# EAGLE library part TIVAC (library tivac)
Tiva-C chip manufactured by TI, chip number is TM4C123GH6PM
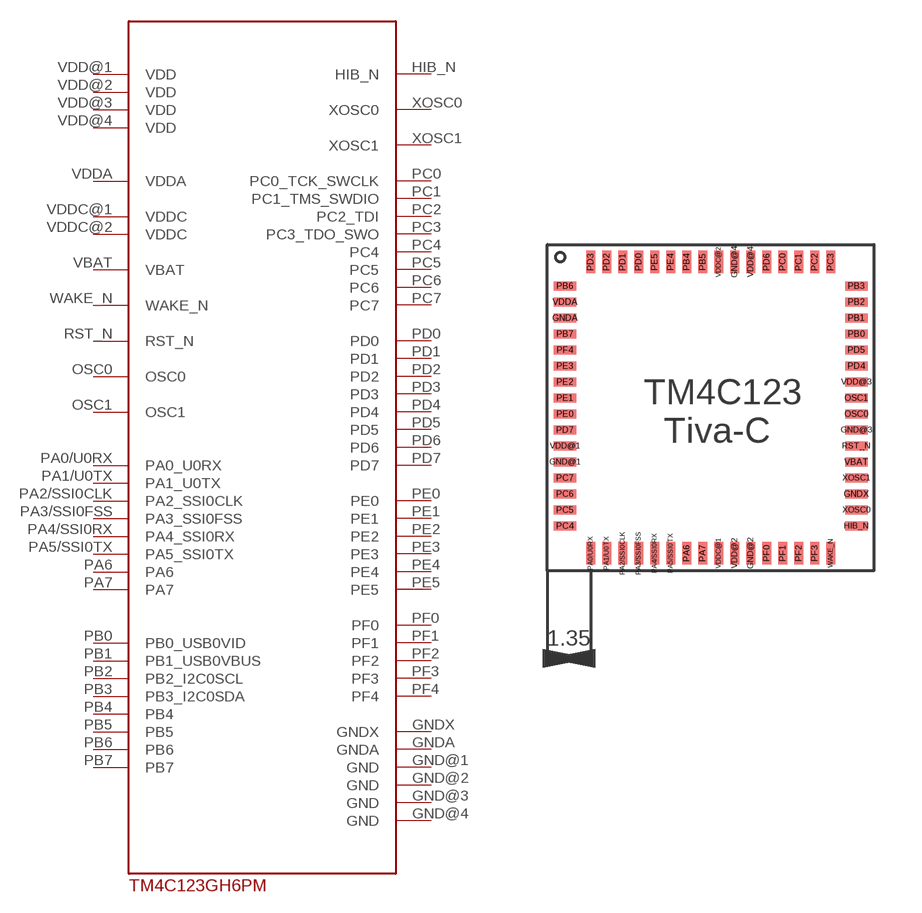
[diagram p0: symbol with the pads of TIVA-C; footprint TIVA-C]

Designator prefix -

## TIVAC  [TIVA-C]
GND@1  GND
GND@2  GND
GND@3  GND
GND@4  GND
GNDA  GNDA
GNDX  GNDX
HIB_N  HIB_N
OSC0  OSC0
OSC1  OSC1
PA0/U0RX  PA0_U0RX
PA1/U0TX  PA1_U0TX
PA2/SSI0CLK  PA2_SSI0CLK
PA3/SSI0FSS  PA3_SSI0FSS
PA4/SSI0RX  PA4_SSI0RX
PA5/SSI0TX  PA5_SSI0TX
PA6  PA6
PA7  PA7
PB0  PB0_USB0VID
PB1  PB1_USB0VBUS
PB2  PB2_I2C0SCL
PB3  PB3_I2C0SDA
PB4  PB4
PB5  PB5
PB6  PB6
PB7  PB7
PC0  PC0_TCK_SWCLK
PC1  PC1_TMS_SWDIO
PC2  PC2_TDI
PC3  PC3_TDO_SWO
PC4  PC4
PC5  PC5
PC6  PC6
PC7  PC7
PD0  PD0
PD1  PD1
PD2  PD2
PD3  PD3
PD4  PD4
PD5  PD5
PD6  PD6
PD7  PD7
PE0  PE0
PE1  PE1
PE2  PE2
PE3  PE3
PE4  PE4
PE5  PE5
PF0  PF0
PF1  PF1
PF2  PF2
PF3  PF3
PF4  PF4
RST_N  RST_N
VBAT  VBAT
VDD@1  VDD
VDD@2  VDD
VDD@3  VDD
VDD@4  VDD
VDDA  VDDA
VDDC@1  VDDC
VDDC@2  VDDC
WAKE_N  WAKE_N
XOSC0  XOSC0
XOSC1  XOSC1

## Footprint TIVA-C (pad centres in mm)
smd 0.7 x 0.28: GND@1 0.55,3.4; GND@3 9.65,4.4; GNDA 0.55,7.9; GNDX 9.65,2.4; HIB_N 9.65,1.4; OSC0 9.65,4.9; OSC1 9.65,5.4; PB0 9.65,7.4; PB1 9.65,7.9; PB2 9.65,8.4; PB3 9.65,8.9; PB6 0.55,8.9; PB7 0.55,7.4; PC4 0.55,1.4; PC5 0.55,1.9; PC6 0.55,2.4; PC7 0.55,2.9; PD4 9.65,6.4; PD5 9.65,6.9; PD7 0.55,4.4; PE0 0.55,4.9; PE1 0.55,5.4; PE2 0.55,5.9; PE3 0.55,6.4; PF4 0.55,6.9; RST_N 9.65,3.9; VBAT 9.65,3.4; VDD@1 0.55,3.9; VDD@3 9.65,5.9; VDDA 0.55,8.4; XOSC0 9.65,1.9; XOSC1 9.65,2.9
smd 0.28 x 0.7: GND@2 6.35,0.55; GND@4 5.85,9.65; PA0/U0RX 1.35,0.55; PA1/U0TX 1.85,0.55; PA2/SSI0CLK 2.35,0.55; PA3/SSI0FSS 2.85,0.55; PA4/SSI0RX 3.35,0.55; PA5/SSI0TX 3.85,0.55; PA6 4.35,0.55; PA7 4.85,0.55; PB4 4.35,9.65; PB5 4.85,9.65; PC0 7.35,9.65; PC1 7.85,9.65; PC2 8.35,9.65; PC3 8.85,9.65; PD0 2.85,9.65; PD1 2.35,9.65; PD2 1.85,9.65; PD3 1.35,9.65; PD6 6.85,9.65; PE4 3.85,9.65; PE5 3.35,9.65; PF0 6.85,0.55; PF1 7.35,0.55; PF2 7.85,0.55; PF3 8.35,0.55; VDD@2 5.85,0.55; VDD@4 6.35,9.65; VDDC@1 5.35,0.55; VDDC@2 5.35,9.65; WAKE_N 8.85,0.55